# EAGLE library part LM3880 (library lm3881)
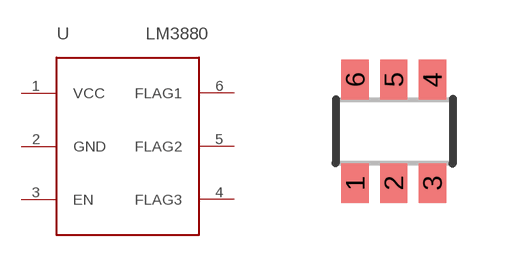
[diagram p0: symbol with the pads of SOT23-6; footprint SOT23-6]

Designator prefix -

## LM3880LM3880  [SOT23-6]
1  VCC
2  GND
3  EN
4  FLAG3
5  FLAG2
6  FLAG1

## Footprint SOT23-6 (pad centres in mm)
smd 0.686 x 0.991: 1 -0.965,-1.321; 2 0,-1.321; 3 0.965,-1.321; 4 0.965,1.27; 5 0,1.27; 6 -0.965,1.27